# EAGLE library part ER-TFT035-6 (library BuyDisplay)
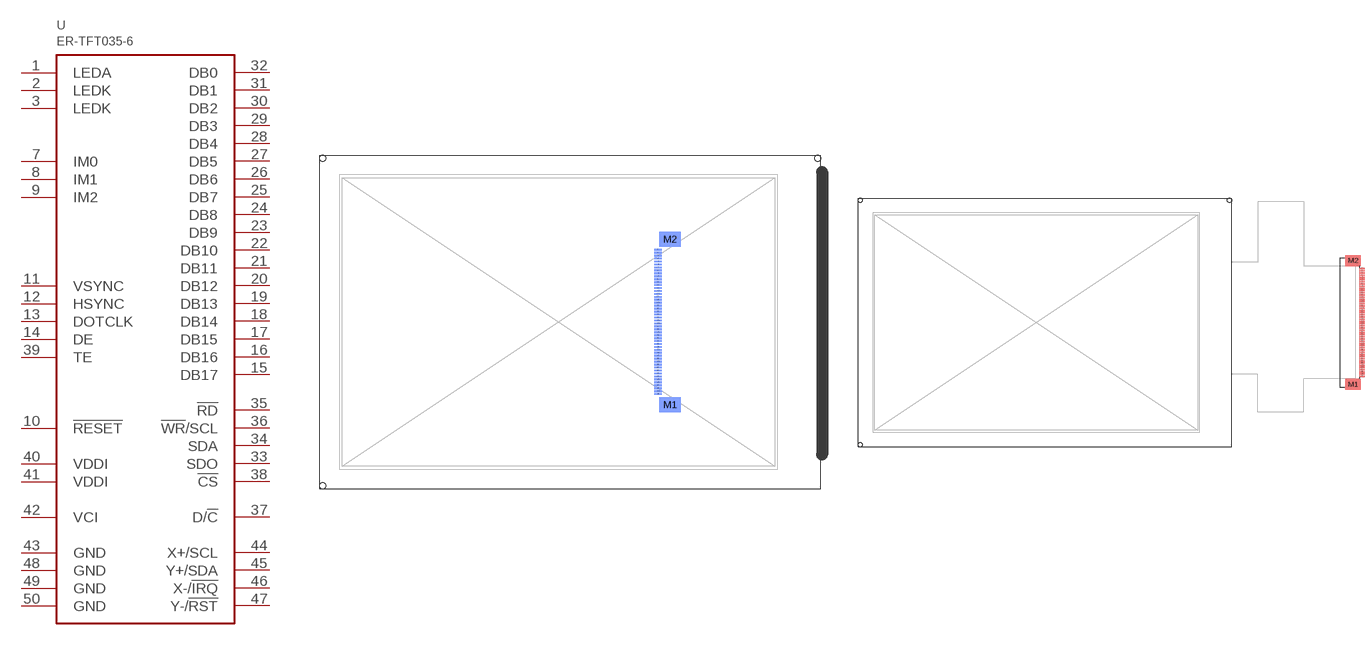
[diagram p0: symbol with the pads of FPC-50P-TFT-BOT; footprints FPC-50P-TFT-BOT, FPC-50P-TFT-TOP]

Designator prefix U

## ER-TFT035-6-BOT  [FPC-50P-TFT-BOT]
1  LEDA
2  LEDK
3  LEDK
7  IM0
8  IM1
9  IM2
10  !RESET
11  VSYNC
12  HSYNC
13  DOTCLK
14  DE
15  DB17
16  DB16
17  DB15
18  DB14
19  DB13
20  DB12
21  DB11
22  DB10
23  DB9
24  DB8
25  DB7
26  DB6
27  DB5
28  DB4
29  DB3
30  DB2
31  DB1
32  DB0
33  SDO
34  SDA
35  !RD
36  !WR!/SCL
37  D/!C!
38  !CS
39  TE
40  VDDI
41  VDDI
42  VCI
43  GND
44  X+/SCL
45  Y+/SDA
46  X-/!IRQ!
47  Y-/!RST!
48  GND
49  GND
50  GND

## ER-TFT035-6-TOP  [FPC-50P-TFT-TOP]
Pads as for FPC-50P-TFT-BOT

## ER-TFT035-6  [FPC-50P]
Pads as for FPC-50P-TFT-BOT

## Footprint FPC-50P-TFT-BOT (pad centres in mm)
Flexible Printed Circuit & Flexible Flat Cable ZIF Connectors 0.5 mm Pitch, 2.55 mm above the board Source: http://www.hirose.co.jp/cataloge_hp/e58618038.pdf
smd 1.3 x 0.3 bottom: 1 16.889,12.27; 2 16.889,11.77; 3 16.889,11.27; 4 16.889,10.77; 5 16.889,10.27; 6 16.889,9.77; 7 16.889,9.27; 8 16.889,8.77; 9 16.889,8.27; 10 16.889,7.77; 11 16.889,7.27; 12 16.889,6.77; 13 16.889,6.27; 14 16.889,5.77; 15 16.889,5.27; 16 16.889,4.77; 17 16.889,4.27; 18 16.889,3.77; 19 16.889,3.27; 20 16.889,2.77; 21 16.889,2.27; 22 16.889,1.77; 23 16.889,1.27; 24 16.889,0.77; 25 16.889,0.27; 26 16.889,-0.23; 27 16.889,-0.73; 28 16.889,-1.23; 29 16.889,-1.73; 30 16.889,-2.23; 31 16.889,-2.73; 32 16.889,-3.23; 33 16.889,-3.73; 34 16.889,-4.23; 35 16.889,-4.73; 36 16.889,-5.23; 37 16.889,-5.73; 38 16.889,-6.23; 39 16.889,-6.73; 40 16.889,-7.23; 41 16.889,-7.73; 42 16.889,-8.23; 43 16.889,-8.73; 44 16.889,-9.23; 45 16.889,-9.73; 46 16.889,-10.23; 47 16.889,-10.73; 48 16.889,-11.23; 49 16.889,-11.73; 50 16.889,-12.23
smd 3.6 x 2.5 bottom: M1 18.914,-14.02; M2 18.914,14.06
hole 1 at -40.005,27.795
hole 1 at -40.005,-27.795
hole 1 at 44.005,27.795

## Footprint FPC-50P-TFT-TOP (pad centres in mm)
Flexible Printed Circuit & Flexible Flat Cable ZIF Connectors 0.5 mm Pitch, 2.55 mm above the board Source: http://www.hirose.co.jp/cataloge_hp/e58618038.pdf
smd 1.3 x 0.3: 1 74.117,12.252; 2 74.117,11.752; 3 74.117,11.252; 4 74.117,10.752; 5 74.117,10.252; 6 74.117,9.752; 7 74.117,9.252; 8 74.117,8.752; 9 74.117,8.252; 10 74.117,7.752; 11 74.117,7.252; 12 74.117,6.752; 13 74.117,6.252; 14 74.117,5.752; 15 74.117,5.252; 16 74.117,4.752; 17 74.117,4.252; 18 74.117,3.752; 19 74.117,3.252; 20 74.117,2.752; 21 74.117,2.252; 22 74.117,1.752; 23 74.117,1.252; 24 74.117,0.752; 25 74.117,0.252; 26 74.117,-0.248; 27 74.117,-0.748; 28 74.117,-1.248; 29 74.117,-1.748; 30 74.117,-2.248; 31 74.117,-2.748; 32 74.117,-3.248; 33 74.117,-3.748; 34 74.117,-4.248; 35 74.117,-4.748; 36 74.117,-5.248; 37 74.117,-5.748; 38 74.117,-6.248; 39 74.117,-6.748; 40 74.117,-7.248; 41 74.117,-7.748; 42 74.117,-8.248; 43 74.117,-8.748; 44 74.117,-9.248; 45 74.117,-9.748; 46 74.117,-10.248; 47 74.117,-10.748; 48 74.117,-11.248; 49 74.117,-11.748; 50 74.117,-12.248
smd 3.6 x 2.5: M1 72.042,-14.088; M2 72.042,14.092
hole 1 at -40.005,27.795
hole 1 at -40.005,-27.795
hole 1 at 44.005,27.795

## Footprint FPC-50P (pad centres in mm)
smd 0.3 x 1.3: 1 -12.25,3.5; 2 -11.75,3.5; 3 -11.25,3.5; 4 -10.75,3.5; 5 -10.25,3.5; 6 -9.75,3.5; 7 -9.25,3.5; 8 -8.75,3.5; 9 -8.25,3.5; 10 -7.75,3.5; 11 -7.25,3.5; 12 -6.75,3.5; 13 -6.25,3.5; 14 -5.75,3.5; 15 -5.25,3.5; 16 -4.75,3.5; 17 -4.25,3.5; 18 -3.75,3.5; 19 -3.25,3.5; 20 -2.75,3.5; 21 -2.25,3.5; 22 -1.75,3.5; 23 -1.25,3.5; 24 -0.75,3.5; 25 -0.25,3.5; 26 0.25,3.5; 27 0.75,3.5; 28 1.25,3.5; 29 1.75,3.5; 30 2.25,3.5; 31 2.75,3.5; 32 3.25,3.5; 33 3.75,3.5; 34 4.25,3.5; 35 4.75,3.5; 36 5.25,3.5; 37 5.75,3.5; 38 6.25,3.5; 39 6.75,3.5; 40 7.25,3.5; 41 7.75,3.5; 42 8.25,3.5; 43 8.75,3.5; 44 9.25,3.5; 45 9.75,3.5; 46 10.25,3.5; 47 10.75,3.5; 48 11.25,3.5; 49 11.75,3.5; 50 12.25,3.5
smd 2.5 x 3.6: M1 14.19,1.45; M2 -14.19,1.45